# EAGLE library part M5218AL/P/FP (library Audio-Power-amlifier V.2.0)
Dual power ampliefier
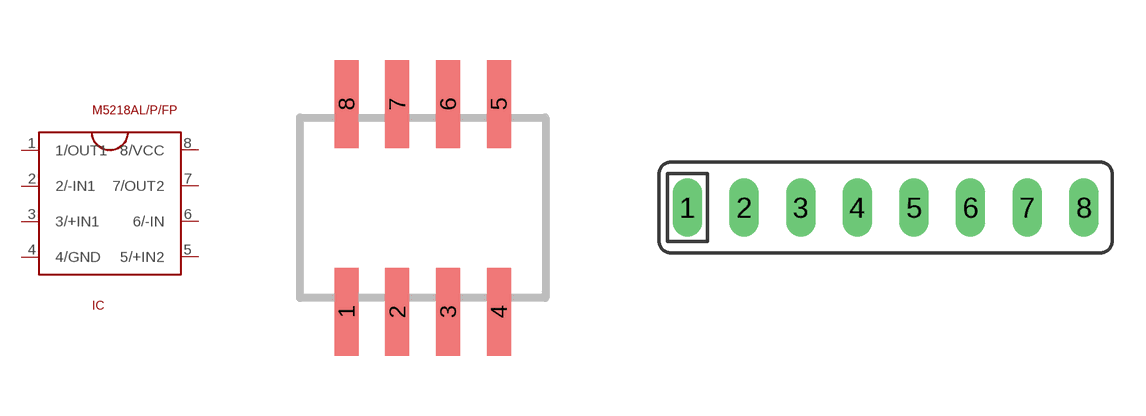
[diagram p60: symbol with the pads of SOP08; footprints SOP08, SIL08]

Designator prefix IC

## M5218AL/P/FP  [SOP08]
1  1/OUT1  out
2  2/-IN1  in
3  3/+IN1  in
4  4/GND  pwr
5  5/+IN2  in
6  6/-IN  in
7  7/OUT2  out
8  8/VCC  pwr

## M5218AL/P/FPSIL08  [SIL08]
Pads as for SOP08

## Footprint SOP08 (pad centres in mm)
smd 0.6 x 2.2: 1 -1.905,-2.6; 2 -0.635,-2.6; 3 0.635,-2.6; 4 1.905,-2.6; 5 1.905,2.6; 6 0.635,2.6; 7 -0.635,2.6; 8 -1.905,2.6

## Footprint SIL08 (pad centres in mm)
single in line 7 diodes with common anode
drill 0.813 long: 1 -8.89,0; 2 -6.35,0; 3 -3.81,0; 4 -1.27,0; 5 1.27,0; 6 3.81,0; 7 6.35,0; 8 8.89,0